# Altium integrated library BC547.IntLib: 1 symbol
Pins are listed as number, name and electrical type; pins without a type are passive.

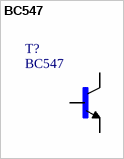
[diagram p0: symbol BC547]

## BC547
designator T?
Transistor NPN BC547 PHILIPS miliampere=100 TO92; MF: ON Semiconductor; Price: None; SnapEDA_Link: https://www.snapeda.com/parts/BC547/ON%20Semiconductor/view-part/?ref=snap; Availability: Unavailable; MP: BC547; Package: TO-92 Rochester Electronics; Value: *
footprint TO92
pins: 1 E, 2 B, 3 C